# Altium footprint library MLACH_obsolete.PCBLIB: 154 footprints (part 7 of 10)
Each footprint in its own frame and in the unit in brackets; x right, y up, seen from the top. Pads: shape width x height; smd on the part's side, far side on the other; paste and mask are expansions set on the pad; w line width, h text height; cw(c..) or ccw(c..) is an arc to the next point about the centre after c.
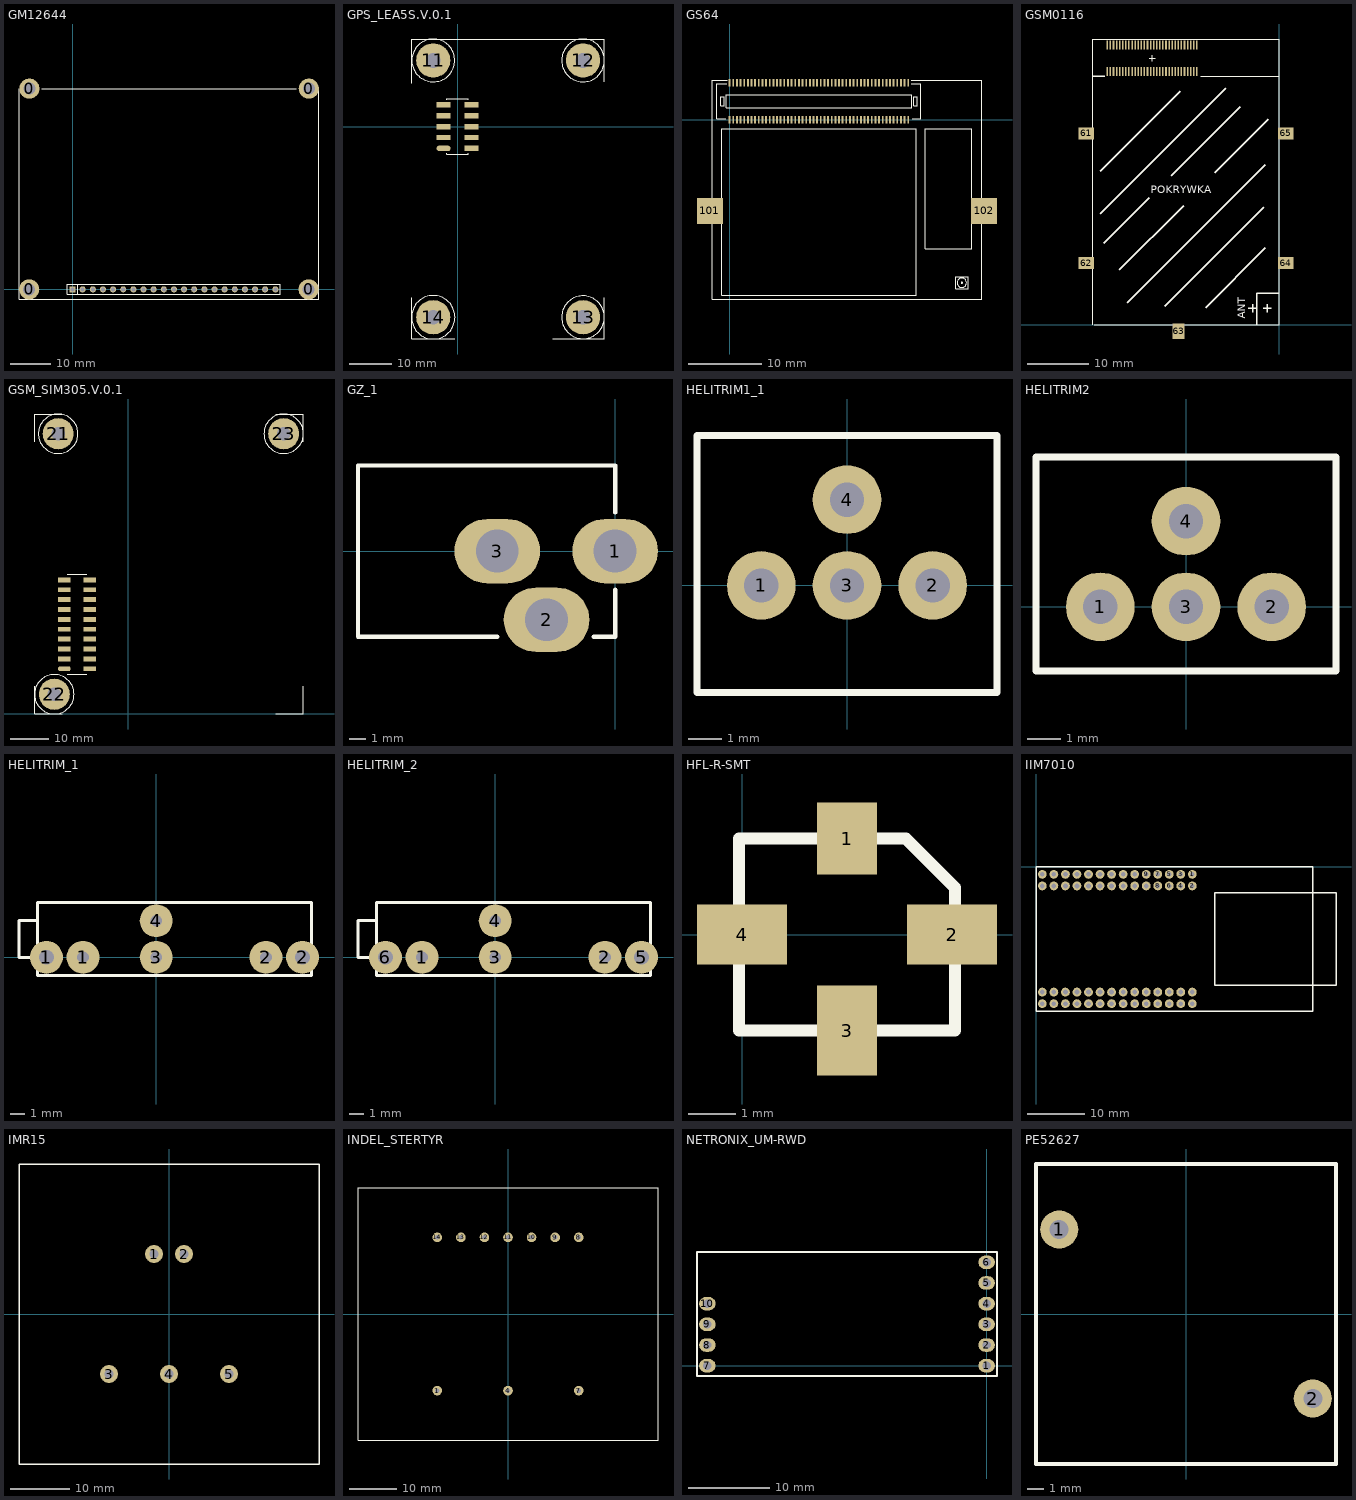
[diagram p6: the footprints below, top view; thin cyan lines are the x and y axes]

## GM12644 [mil]
pads (25):
  round 200 hole 120: 0(-427.95,0) 0(-425.2,1980.32) 0(2327.95,0) 0(2330.71,1980.32)
  rect 60x60 hole 40: 1(0,0)
  round 60 hole 40: 2(100,0) 3(200,0) 4(300,0) 5(400,0) 6(500,0) 7(600,0) 8(700,0) 9(800,0) 10(900,0) 11(1000,0) 12(1100,0) 13(1200,0) 14(1300,0) 15(1400,0) 16(1500,0) 17(1600,0) 18(1700,0) 19(1800,0) 20(1900,0) 21(2000,0)
TopOverlay:
  lines w10: -526.38,1980.32 -526.38,-98.43 2426.38,-98.43 2426.38,1980.32 ; -305,1980 2205,1980 ; 50,-50 50,50 ; -50,-50 2050,-50 2050,50 -50,50 -50,-50

## GPS_LEA5S.V.0.1 [mm]
pads (14):
  oval 3.25x1.27 smd: 1(-3.25,-5.08)
  rect 3.25x1.27 smd: 2(3.25,-5.08) 3(-3.25,-2.54) 4(3.25,-2.54) 5(-3.25,0) 6(3.25,0) 7(-3.25,2.54) 8(3.25,2.54) 9(-3.25,5.08) 10(3.25,5.08)
  round 8 hole 3.5: 11(-5.668,15.47) 12(29.332,15.47) 13(29.332,-44.53) 14(-5.668,-44.53)
TopOverlay:
  circle w0.254: c29.332,15.47 r5
  circle w0.254: c-5.668,15.47 r5
  circle w0.254: c29.332,-44.53 r5
  circle w0.254: c-5.668,-44.53 r5.08
  lines w0.254: -10.668,-40 -10.668,-49.53 -0.635,-49.53 ; -10.668,10.16 -10.668,20.47 34.332,20.47 34.332,10.499 ; -2.54,-6.223 -2.54,-6.477 2.54,-6.477 2.54,-6.223 ; -2.54,6.223 -2.54,6.477 2.54,6.477 2.54,6.223 ; 22.225,-49.53 34.332,-49.53 34.332,-40

## GS64 [mil]
pads (102):
  rect 10x40 smd: 1(964.57,201.57) 2(964.57,0) 3(944.88,201.58) 4(944.88,0) 5(925.2,201.57) 6(925.2,0) 7(905.51,201.57) 8(905.51,0) 9(885.83,201.58) 10(885.83,0) 11(866.14,201.57) 12(866.14,0) 13(846.46,201.57) 14(846.46,0) 15(826.77,201.58) 16(826.77,0) 17(807.09,201.57) 18(807.09,0) 19(787.4,201.57) 20(787.4,0) 21(767.72,201.58) 22(767.72,0) 23(748.03,201.57) 24(748.03,0) 25(728.35,201.57) 26(728.35,0) 27(708.66,201.57) 28(708.66,0) 29(688.98,201.57) 30(688.98,0) 31(669.29,201.57) 32(669.29,0) 33(649.61,201.57) 34(649.61,0) 35(629.92,201.57) 36(629.92,0) 37(610.24,201.57) 38(610.24,0) 39(590.55,201.57) 40(590.55,0) 41(570.87,201.57) 42(570.87,0) 43(551.18,201.57) 44(551.18,0) 45(531.5,201.57) 46(531.5,0) 47(511.81,201.57) 48(511.81,0) 49(492.13,201.57) 50(492.13,0) 51(472.44,201.57) 52(472.44,0) 53(452.76,201.57) 54(452.76,0) 55(433.07,201.57) 56(433.07,0) 57(413.39,201.57) 58(413.39,0) 59(393.7,201.57) 60(393.7,0) 61(374.02,201.57) 62(374.02,0) 63(354.33,201.57) 64(354.33,0) 65(334.65,201.57) 66(334.65,0) 67(314.96,201.57) 68(314.96,0) 69(295.28,201.57) 70(295.28,0) 71(275.59,201.57) 72(275.59,0) 73(255.91,201.57) 74(255.91,0) 75(236.22,201.57) 76(236.22,0) 77(216.54,201.57) 78(216.53,0) 79(196.85,201.58) 80(196.85,0) 81(177.17,201.57) 82(177.17,0) 83(157.48,201.57) 84(157.48,0) 85(137.8,201.58) 86(137.8,0) 87(118.11,201.57) 88(118.11,0) 89(98.43,201.57) 90(98.42,0) 91(78.74,201.58) 92(78.74,0) 93(59.06,201.57) 94(59.06,0) 95(39.37,201.57) 96(39.37,0) 97(19.68,201.58) 98(19.68,0) 99(0,201.57) 100(0,0)
  rect 140x140 smd: 101(-106.3,-491.73) 102(1374.02,-491.73)
TopOverlay:
  lines w5: -22.24,6.3 -68.9,6.3 -68.9,195.28 -15.35,195.28 ; -13.39,212.99 -94.49,212.99 -94.49,-968.11 1362.2,-968.11 1362.2,212.99 980.91,212.99 ; 981.69,195.28 1033.46,195.28 1033.46,6.3 986.61,6.3 ; -49.21,77.17 -29.53,77.17 -29.53,124.41 -49.21,124.41 -49.21,77.17 ; -42.91,-946.85 -42.91,-46.85 1007.09,-46.85 1007.09,-946.85 -42.91,-946.85 ; -17.72,65.35 -17.72,136.22 982.28,136.22 982.28,65.35 -17.72,65.35 ; 994.09,77.17 1013.78,77.17 1013.78,124.41 994.09,124.41 994.09,77.17 ; 1057.09,-696.85 1307.09,-696.85 1307.09,-46.85 1107.09,-46.85 1057.09,-46.85 1057.09,-696.85 ; 1220.47,-912.99 1287.4,-912.99 1287.4,-846.06 1220.47,-846.06 1220.47,-912.99 ; 1228.35,-879.53 cw(c1253.94,-879.53) 1279.53,-879.53 cw(c1253.94,-879.53) 1228.35,-879.53 ; 1250,-879.53 ccw(c1253.94,-879.53) 1257.87,-879.53 ccw(c1253.94,-879.53) 1250,-879.53

## GSM0116 [mil]
pads (65):
  rect 10x59 smd: 1(-1096.06,1784.65) 2(-1096.06,1615.35) 3(-1076.38,1784.65) 4(-1076.38,1615.35) 5(-1056.69,1784.65) 6(-1056.69,1615.35) 7(-1037.01,1784.65) 8(-1037.01,1615.35) 9(-1017.32,1784.65) 10(-1017.32,1615.35) 11(-997.64,1784.65) 12(-997.64,1615.35) 13(-977.95,1784.65) 14(-977.95,1615.35) 15(-958.27,1784.65) 16(-958.27,1615.35) 17(-938.58,1784.65) 18(-938.58,1615.35) 19(-918.9,1784.65) 20(-918.9,1615.35) 21(-899.21,1784.65) 22(-899.21,1615.35) 23(-879.53,1784.65) 24(-879.53,1615.35) 25(-859.84,1784.65) 26(-859.84,1615.35) 27(-840.16,1784.65) 28(-840.16,1615.35) 29(-820.47,1784.65) 30(-820.47,1615.35) 31(-800.79,1784.65) 32(-800.79,1615.35) 33(-781.1,1784.65) 34(-781.1,1615.35) 35(-761.42,1784.65) 36(-761.42,1615.35) 37(-741.73,1784.65) 38(-741.73,1615.35) 39(-722.05,1784.65) 40(-722.05,1615.35) 41(-702.36,1784.65) 42(-702.36,1615.35) 43(-682.68,1784.65) 44(-682.68,1615.35) 45(-662.99,1784.65) 46(-662.99,1615.35) 47(-643.31,1784.65) 48(-643.31,1615.35) 49(-623.62,1784.65) 50(-623.62,1615.35) 51(-603.94,1784.65) 52(-603.94,1615.35) 53(-584.25,1784.65) 54(-584.25,1615.35) 55(-564.57,1784.65) 56(-564.57,1615.35) 57(-544.88,1784.65) 58(-544.88,1615.35) 59(-525.2,1784.65) 60(-525.2,1615.35)
  rect 98x78 smd: 61(-1230.32,1220.47) 62(-1230.32,393.7) 64(41.34,393.7) 65(41.34,1220.47)
  rect 78x98 smd: 63(-641.73,-41.34)
TopOverlay:
  lines w6: -1188.98,0 -1188.98,1822.83 0,1822.83 0,0 -1181.1,0 ; -830.31,1700 -790.94,1700 ; -810.63,1680.32 -810.63,1719.68 ; -499.61,1586.61 0,1586.61
  lines w8: -1188.78,1586.61 -1112.01,1586.61 ; -1140,710 -340,1510 ; -1140,980 -630,1490 ; -1120,520 -830,810 ; -1020,350 -610,760 ; -970,140 -90,1020 ; -730,120 -100,750 ; -690,950 -250,1390 ; -470,110 -90,490 ; -410,970 -70,1310 ; -196.06,105.12 -144.69,105.12 ; -170.08,80.71 -170.08,130.71 ; -141.73,0 -141.73,200.79 0,200.79 ; -101.38,105.12 -50,105.12 ; -75.2,80.71 -75.2,130.71
  text "POKRYWKA" at -820,840 h50
  text "ANT" at -216.54,39.37 h50

## GSM_SIM305.V.0.1 [mm]
pads (23):
  oval 3.25x1.27 smd: 1(-16.407,11.557)
  rect 3.25x1.27 smd: 2(-9.907,11.557) 3(-16.407,14.097) 4(-9.907,14.097) 5(-16.407,16.637) 6(-9.907,16.637) 7(-16.407,19.177) 8(-9.907,19.177) 9(-16.407,21.717) 10(-9.907,21.717) 11(-16.407,24.257) 12(-9.907,24.257) 13(-16.407,26.797) 14(-9.907,26.797) 15(-16.407,29.337) 16(-9.907,29.337) 17(-16.407,31.877) 18(-9.907,31.877) 19(-16.407,34.417) 20(-9.907,34.417)
  round 8 hole 3.5: 21(-18,72) 22(-19,5) 23(40,72)
TopOverlay:
  circle w0.254: c-18,72 r5.08
  circle w0.254: c40,72 r5.08
  circle w0.254: c-19,5 r5.08
  lines w0.203: -24,7 -24,0 -17,0 ; -24,70 -24,77 -17,77 ; 38,0 45,0 45,7 ; 38,77 45,77 45,70
  lines w0.254: -15.697,10.16 -10.617,10.16 ; -15.697,35.814 -10.617,35.814

## GZ_1 [mil]
pads (3):
  oval 200x150 hole 100: 1(0,0) 2(-160,-160) 3(-275,0)
TopOverlay:
  lines w10: -275,-200 -600,-200 -600,200 0,200 0,90 ; -50,-200 0,-200 0,-90

## HELITRIM1_1 [mil]
pads (4):
  round 80 hole 40: 1(-100,0) 2(100,0) 3(0,0) 4(0,100)
TopOverlay:
  lines w8: -175,-125 -175,175 175,175 175,-125 -175,-125

## HELITRIM2 [mil]
pads (4):
  round 80 hole 40: 1(-100,0) 2(100,0) 3(0,0) 4(0,100)
TopOverlay:
  lines w8: -175,-75 175,-75 175,175 -175,175 -175,-75

## HELITRIM_1 [mil]
pads (6):
  round 90 hole 40: 1(-300,0) 2(400,0)
  round 90 hole 32: 1(-200,0) 2(300,0) 3(0,0) 4(0,100)
TopOverlay:
  lines w8: -325,0 -375,0 -375,100 -325,100 ; -325,-50 425,-50 425,150 -325,150 -325,-50

## HELITRIM_2 [mil]
pads (6):
  round 90 hole 32: 1(-200,0) 2(300,0) 3(0,0) 4(0,100)
  round 90 hole 40: 5(400,0) 6(-300,0)
TopOverlay:
  lines w8: -325,0 -375,0 -375,100 -325,100 ; -325,-50 -325,150 425,150 425,-50 -325,-50

## HFL-R-SMT [mil]
pads (4):
  rect 50x60 smd: 1(87.5,80)
  rect 75x50 smd: 2(175,0) 4(0,0)
  rect 50x75 smd: 3(87.5,-80)
TopOverlay:
  lines w10: 177.5,-2 177.5,39 136.5,80 87.5,80 -2.5,80 -2.5,0 -2.5,-80 87.5,-80 177.5,-80 177.5,0

## IIM7010 [mil]
pads (56):
  round 60 hole 32: 1(1066.93,-51.18) 2(1066.93,-129.92) 3(988.19,-51.18) 4(988.19,-129.92) 5(909.45,-51.18) 6(909.45,-129.92) 7(830.71,-51.18) 8(830.71,-129.92) 9(751.97,-51.18) 10(751.97,-129.92) 11(673.23,-51.18) 12(673.23,-129.92) 13(594.49,-51.18) 14(594.49,-129.92) 15(515.75,-51.18) 16(515.75,-129.92) 17(437.01,-51.18) 18(437.01,-129.92) 19(358.27,-51.18) 20(358.27,-129.92) 21(279.53,-51.18) 22(279.53,-129.92) 23(200.79,-51.18) 24(200.79,-129.92) 25(122.05,-51.18) 26(122.05,-129.92) 27(43.31,-51.18) 28(43.31,-129.92) 29(1066.93,-854.33) 30(1066.93,-933.07) 31(988.19,-854.33) 32(988.19,-933.07) 33(909.45,-854.33) 34(909.45,-933.07) 35(830.71,-854.33) 36(830.71,-933.07) 37(751.97,-854.33) 38(751.97,-933.07) 39(673.23,-854.33) 40(673.23,-933.07) 41(594.49,-854.33) 42(594.49,-933.07) 43(515.75,-854.33) 44(515.75,-933.07) 45(437.01,-854.33) 46(437.01,-933.07) 47(358.27,-854.33) 48(358.27,-933.07) 49(279.53,-854.33) 50(279.53,-933.07) 51(200.79,-854.33) 52(200.79,-933.07) 53(122.05,-854.33) 54(122.05,-933.07) 55(43.31,-854.33) 56(43.31,-933.07)
TopOverlay:
  lines w10: 0,-984.25 1889.76,-984.25 1889.76,0 0,0 0,-984.25 ; 1220.47,-807.09 2047.24,-807.09 2047.24,-177.17 1220.47,-177.17 1220.47,-807.09

## IMR15 [mil]
pads (5):
  round 120 hole 60: 1(-100,400) 2(100,400) 3(-400,-400) 4(0,-400) 5(400,-400)
TopOverlay:
  lines w10: -1000,-1000 1000,-1000 1000,1000 -1000,1000 -1000,-1000

## INDEL_STERTYR [mil]
pads (10):
  round 80 hole 40: 1(-590.55,-639.76) 4(0,-639.76) 7(590.55,-639.76) 8(590.55,639.76) 9(393.7,639.76) 10(196.85,639.76) 11(0,639.76) 12(-196.85,639.76) 13(-393.7,639.76) 14(-590.55,639.76)
TopOverlay:
  lines w8: -1251.97,-1055.12 -1251.97,1055.12 1251.97,1055.12 1251.97,-1055.12 -1251.97,-1055.12

## NETRONIX_UM-RWD [mil]
pads (10):
  oval 80x65 hole 40: 1(0,0) 2(0,100) 3(0,200) 4(0,300) 5(0,400) 6(0,500) 7(-1350,0) 8(-1350,100) 9(-1350,200) 10(-1350,300)
TopOverlay:
  lines w10: -1400,-50 -1400,550 50,550 50,-50 -1400,-50

## PE52627 [mil]
pads (2):
  round 90 hole 45: 1(-300,200) 2(300,-200)
TopOverlay:
  lines w10: -355,-355 355,-355 355,355 -355,355 -355,-355